# EAGLE library part VNH2SP30TR-E (library robotter_ic)
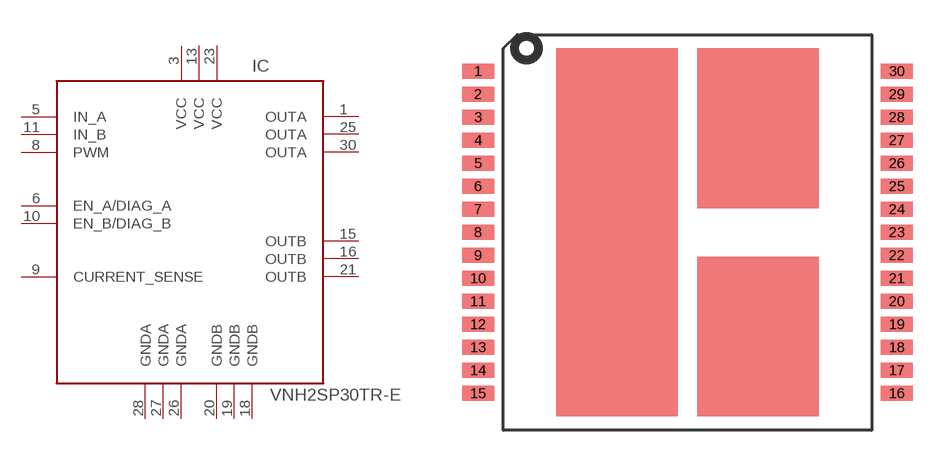
[diagram p9: symbol with the pads of MULTIPOWER_SO-30; footprint MULTIPOWER_SO-30]

Designator prefix IC

## VNH2SP30TR-E  [MULTIPOWER_SO-30]
1  OUTA  out
3  VCC  sup
5  IN_A  in
6  EN_A/DIAG_A  oc
8  PWM  in
9  CURRENT_SENSE  out
10  EN_B/DIAG_B  oc
11  IN_B  in
13  VCC  sup
15  OUTB  out
16  OUTB  out
18  GNDB  sup
19  GNDB  sup
20  GNDB  sup
21  OUTB
23  VCC  sup
25  OUTA  out
26  GNDA  sup
27  GNDA  sup
28  GNDA  sup
30  OUTA  out

## Footprint MULTIPOWER_SO-30 (pad centres in mm)
smd 1.4 x 0.65: 1 -9.1,7; 2 -9.1,6; 3 -9.1,5; 4 -9.1,4; 5 -9.1,3; 6 -9.1,2; 7 -9.1,1; 8 -9.1,0; 9 -9.1,-1; 10 -9.1,-2; 11 -9.1,-3; 12 -9.1,-4; 13 -9.1,-5; 14 -9.1,-6; 15 -9.1,-7; 16 9.1,-7; 17 9.1,-6; 18 9.1,-5; 19 9.1,-4; 20 9.1,-3; 21 9.1,-2; 22 9.1,-1; 23 9.1,0; 24 9.1,1; 25 9.1,2; 26 9.1,3; 27 9.1,4; 28 9.1,5; 29 9.1,6; 30 9.1,7